# Altium schematic symbol library Connect.SchLib: 177 symbols
Pins are listed as number, name and electrical type; pins without a type are passive.

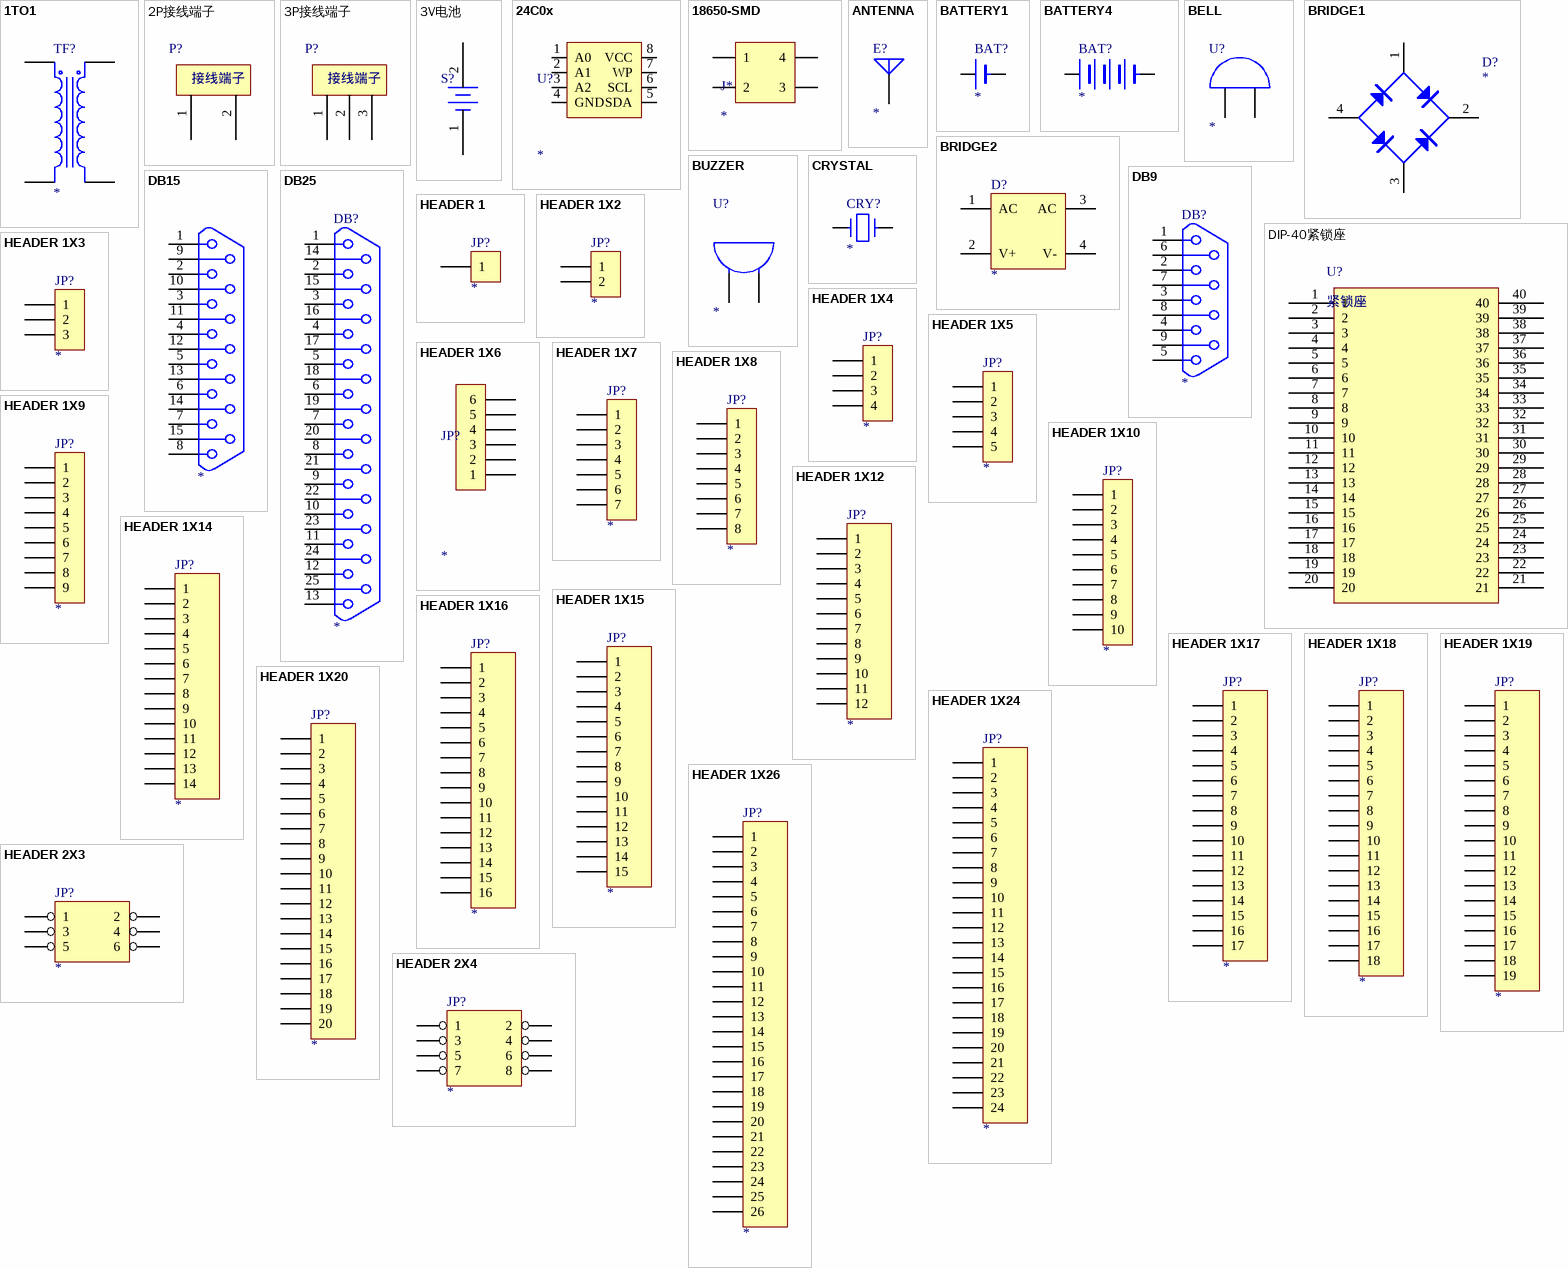
[diagram p0: symbols 1TO1 to HEADER 2X4]

## 1TO1
designator TF?
Transformer
simulation model 1TO1 (SUBCKT)
pins: 1 Pri+, 2 Pri-, 3 Sec+, 4 Sec-

## 2P接线端子
designator P?  (value not drawn)
footprint 2P接线端子
footprint 2P接线端子小
pins: 1, 2
text: 接线端子

## 3P接线端子
designator P?  (value not drawn)
footprint 3P接线端子小
pins: 1, 2, 3
text: 接线端子

## 3V电池
designator S?  (value not drawn)
footprint 电池2032
footprint 电池1220
footprint 3V电池
pins: 1, 2

## 24C0x
designator U?
footprint SOP-8
pins: 1 A0, 2 A1, 3 A2, 4 GND, 5 SDA, 6 SCL, 7 WP, 8 VCC

## 18650-SMD
designator J*
footprint 18650-SMD
pins: 1, 2, 3, 4

## ANTENNA
designator E?
Generic Antenna
pins: 1 A

## BATTERY1
designator BAT?
footprint CR1220电池座
pins: 1, 2

## BATTERY4
designator BAT?
pins: 1, 2

## BELL
designator U?
Bell
footprint BELL-non
pins: 1 A, 2 B

## BRIDGE1
designator D?
Diode Bridge
footprint BRIDGE
pins: 1 AC, 2 V+, 3 AC, 4 V-

## BRIDGE2
designator D?
Diode Bridge
footprint BRIDGE
pins: 1 AC, 2 V+, 3 AC, 4 V-

## BUZZER
designator U?
Buzzer
pins: 1 A, 2 B

## CRYSTAL
designator CRY?
footprint XTAL-RAD-0.2
footprint XTAL-A
footprint XTAL-B (206晶振)
pins: 1, 2

## DB9
designator DB?
footprint DB9 公 90°
footprint DB9/M
pins: 1, 2, 3, 4, 5, 6, 7, 8, 9

## DB15
designator ?
footprint Model Name (Footprint not found)
pins: 1, 2, 3, 4, 5, 6, 7, 8, 9, 10, 11, 12, 13, 14, 15

## DB25
designator DB?
footprint DB25
pins: 1, 2, 3, 4, 5, 6, 7, 8, 9, 10, 11, 12, 13, 14, 15, 16, 17, 18, 19, 20, 21, 22, 23, 24, 25

## DIP-40紧锁座
designator U?, comment 紧锁座
footprint DIP40紧锁座
pins: 1, 2, 3, 4, 5, 6, 7, 8, 9, 10, 11, 12, 13, 14, 15, 16, 17, 18, 19, 20, 21, 22, 23, 24, 25, 26, 27, 28, 29, 30, 31, 32, 33, 34, 35, 36, 37, 38, 39, 40

## HEADER 1
designator JP?
footprint HDR 1X1
pins: 1

## HEADER 1X2
designator JP?
footprint HDR 1X2
footprint HDR 1X2-X
pins: 1, 2

## HEADER 1X3
designator JP?
footprint HDR 1X3
footprint HDR 1X3-X
pins: 1, 2, 3

## HEADER 1X4
designator JP?
footprint HDR 1X4
footprint HDR 1X4-F
pins: 1, 2, 3, 4

## HEADER 1X5
designator JP?
footprint HDR 1X5
pins: 1, 2, 3, 4, 5

## HEADER 1X6
designator JP?
footprint HDR 1X6
footprint B6B-XH-A
footprint HDR 1X6-F
pins: 1, 2, 3, 4, 5, 6

## HEADER 1X7
designator JP?
footprint Model Name (Footprint not found)
pins: 1, 2, 3, 4, 5, 6, 7

## HEADER 1X8
designator JP?
footprint HDR 1X8 (Connector; Header; 8 Position)
footprint HDR 1X8-F
pins: 1, 2, 3, 4, 5, 6, 7, 8

## HEADER 1X9
designator JP?
footprint SIP9
pins: 1, 2, 3, 4, 5, 6, 7, 8, 9

## HEADER 1X10
designator JP?
footprint HDR 1X10
pins: 1, 2, 3, 4, 5, 6, 7, 8, 9, 10

## HEADER 1X12
designator JP?
footprint Model Name (Model Description)
pins: 1, 2, 3, 4, 5, 6, 7, 8, 9, 10, 11, 12

## HEADER 1X14
designator JP?
pins: 1, 2, 3, 4, 5, 6, 7, 8, 9, 10, 11, 12, 13, 14

## HEADER 1X15
designator JP?
pins: 1, 2, 3, 4, 5, 6, 7, 8, 9, 10, 11, 12, 13, 14, 15

## HEADER 1X16
designator JP?
pins: 1, 2, 3, 4, 5, 6, 7, 8, 9, 10, 11, 12, 13, 14, 15, 16

## HEADER 1X17
designator JP?
pins: 1, 2, 3, 4, 5, 6, 7, 8, 9, 10, 11, 12, 13, 14, 15, 16, 17

## HEADER 1X18
designator JP?
pins: 1, 2, 3, 4, 5, 6, 7, 8, 9, 10, 11, 12, 13, 14, 15, 16, 17, 18

## HEADER 1X19
designator JP?
pins: 1, 2, 3, 4, 5, 6, 7, 8, 9, 10, 11, 12, 13, 14, 15, 16, 17, 18, 19

## HEADER 1X20
designator JP?
footprint HDR 1X20-F
pins: 1, 2, 3, 4, 5, 6, 7, 8, 9, 10, 11, 12, 13, 14, 15, 16, 17, 18, 19, 20

## HEADER 1X24
designator JP?
pins: 1, 2, 3, 4, 5, 6, 7, 8, 9, 10, 11, 12, 13, 14, 15, 16, 17, 18, 19, 20, 21, 22, 23, 24

## HEADER 1X26
designator JP?
pins: 1, 2, 3, 4, 5, 6, 7, 8, 9, 10, 11, 12, 13, 14, 15, 16, 17, 18, 19, 20, 21, 22, 23, 24, 25, 26

## HEADER 2X3
designator JP?
footprint HDR 2X3 (Connector; Header; 3x2 Position)
footprint HDR 2X3H (Connector; Header; 3x2 Position; Right Angle)
pins: 1, 2, 3, 4, 5, 6

## HEADER 2X4
designator JP?
footprint HDR 2X4
footprint HDR 2X4H (Connector; Header; 4x2 Position; Right Angle)
pins: 1, 2, 3, 4, 5, 6, 7, 8

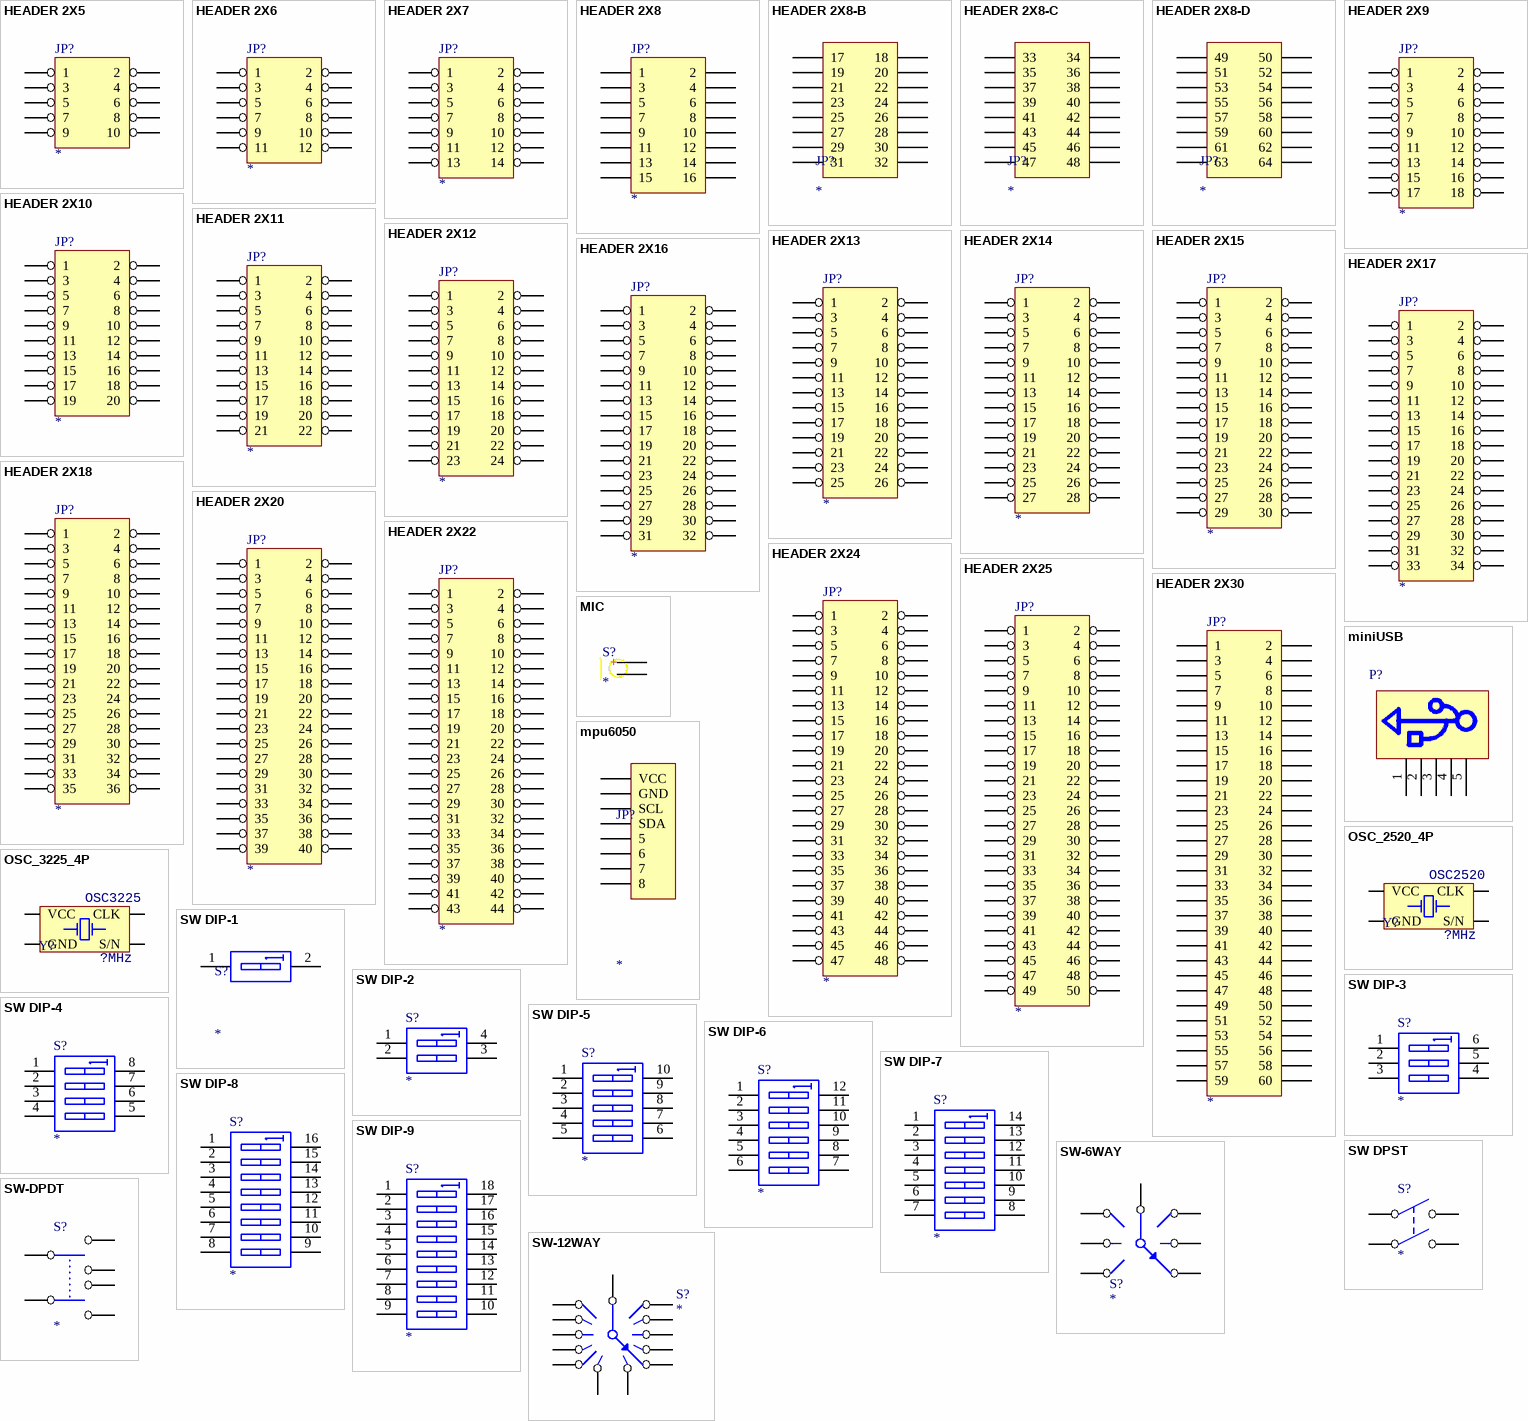
[diagram p1: symbols HEADER 2X5 to SW-DPDT]

## HEADER 2X5
designator JP?
footprint HDR 2X5 (Connector; Header; 5x2 Position)
footprint HDR 2X5H (Connector; Header; 5x2 Position; Right Angle)
pins: 1, 2, 3, 4, 5, 6, 7, 8, 9, 10

## HEADER 2X6
designator JP?
footprint HDR 2X6 (Connector; Header; 6x2 Position)
footprint HDR 2X6H (Connector; Header; 6x2 Position; Right Angle)
pins: 1, 2, 3, 4, 5, 6, 7, 8, 9, 10, 11, 12

## HEADER 2X7
designator JP?
footprint HDR 2X7 (Connector; Header; 7x2 Position)
footprint HDR 2X7H (Connector; Header; 7x2 Position; Right Angle)
pins: 1, 2, 3, 4, 5, 6, 7, 8, 9, 10, 11, 12, 13, 14

## HEADER 2X8
designator JP?
footprint HDR 2X8 (Connector; Header; 8x2 Position)
footprint HDR 2X8H (Connector; Header; 8x2 Position; Right Angle)
footprint HDR 2X8F
pins: 1, 2, 3, 4, 5, 6, 7, 8, 9, 10, 11, 12, 13, 14, 15, 16

## HEADER 2X8-B
designator JP?
footprint HDR 2X8-B-F
footprint HDR 2X8-B
pins: 17, 18, 19, 20, 21, 22, 23, 24, 25, 26, 27, 28, 29, 30, 31, 32

## HEADER 2X8-C
designator JP?
footprint HDR 2X8-C-F
footprint HDR 2X8-C
pins: 33, 34, 35, 36, 37, 38, 39, 40, 41, 42, 43, 44, 45, 46, 47, 48

## HEADER 2X8-D
designator JP?
footprint HDR 2X8-D-F
pins: 49, 50, 51, 52, 53, 54, 55, 56, 57, 58, 59, 60, 61, 62, 63, 64

## HEADER 2X9
designator JP?
footprint IDC18
footprint IDC-18
pins: 1, 2, 3, 4, 5, 6, 7, 8, 9, 10, 11, 12, 13, 14, 15, 16, 17, 18

## HEADER 2X10
designator JP?
footprint HDR 2X10 (Connector; Header; 10x2 Position)
footprint HDR 2X10H (Connector; Header; 10x2 Position; Right Angle)
pins: 1, 2, 3, 4, 5, 6, 7, 8, 9, 10, 11, 12, 13, 14, 15, 16, 17, 18, 19, 20

## HEADER 2X11
designator JP?
footprint HDR 2X11 (Connector; Header; 11x2 Position)
footprint HDR 2X11H (Connector; Header; 11x2 Position; Right Angle)
pins: 1, 2, 3, 4, 5, 6, 7, 8, 9, 10, 11, 12, 13, 14, 15, 16, 17, 18, 19, 20, 21, 22

## HEADER 2X12
designator JP?
footprint HDR 2X12 (Connector; Header; 12x2 Position)
footprint HDR 2X12H (Connector; Header; 12x2 Position; Right Angle)
pins: 1, 2, 3, 4, 5, 6, 7, 8, 9, 10, 11, 12, 13, 14, 15, 16, 17, 18, 19, 20, 21, 22, 23, 24

## HEADER 2X13
designator JP?
footprint HDR 2X13 (Connector; Header; 13x2 Position)
footprint HDR 2X13H (Connector; Header; 13x2 Position; Right Angle)
pins: 1, 2, 3, 4, 5, 6, 7, 8, 9, 10, 11, 12, 13, 14, 15, 16, 17, 18, 19, 20, 21, 22, 23, 24, 25, 26

## HEADER 2X14
designator JP?
footprint HDR 2X14 (Connector; Header; 14x2 Position)
footprint HDR 2X14H (Connector; Header; 14x2 Position; Right Angle)
pins: 1, 2, 3, 4, 5, 6, 7, 8, 9, 10, 11, 12, 13, 14, 15, 16, 17, 18, 19, 20, 21, 22, 23, 24, 25, 26, 27, 28

## HEADER 2X15
designator JP?
footprint HDR 2X15 (Connector; Header; 15x2 Position)
footprint HDR 2X15H (Connector; Header; 15x2 Position; Right Angle)
pins: 1, 2, 3, 4, 5, 6, 7, 8, 9, 10, 11, 12, 13, 14, 15, 16, 17, 18, 19, 20, 21, 22, 23, 24, 25, 26, 27, 28, 29, 30

## HEADER 2X16
designator JP?
footprint HDR 2X16 (Connector; Header; 16x2 Position)
footprint HDR 2X16H (Connector; Header; 16x2 Position; Right Angle)
pins: 1, 2, 3, 4, 5, 6, 7, 8, 9, 10, 11, 12, 13, 14, 15, 16, 17, 18, 19, 20, 21, 22, 23, 24, 25, 26, 27, 28, 29, 30, 31, 32

## HEADER 2X17
designator JP?
footprint HDR 2X17 (Connector; Header; 17x2 Position)
footprint HDR 2X17H (Connector; Header; 17x2 Position; Right Angle)
pins: 1, 2, 3, 4, 5, 6, 7, 8, 9, 10, 11, 12, 13, 14, 15, 16, 17, 18, 19, 20, 21, 22, 23, 24, 25, 26, 27, 28, 29, 30, 31, 32, 33, 34

## HEADER 2X18
designator JP?
footprint HDR 2X18 (Connector; Header; 18x2 Position)
footprint HDR 2X18H (Connector; Header; 18x2 Position; Right Angle)
pins: 1, 2, 3, 4, 5, 6, 7, 8, 9, 10, 11, 12, 13, 14, 15, 16, 17, 18, 19, 20, 21, 22, 23, 24, 25, 26, 27, 28, 29, 30, 31, 32, 33, 34, 35, 36

## HEADER 2X20
designator JP?
footprint HDR 2X20
footprint HDR 2X20H (Connector; Header; 20x2 Position; Right Angle)
pins: 1, 2, 3, 4, 5, 6, 7, 8, 9, 10, 11, 12, 13, 14, 15, 16, 17, 18, 19, 20, 21, 22, 23, 24, 25, 26, 27, 28, 29, 30, 31, 32, 33, 34, 35, 36, 37, 38, 39, 40

## HEADER 2X22
designator JP?
footprint HDR 2X22 (Connector; Header; 22x2 Position)
footprint HDR 2X22H (Connector; Header; 22x2 Position; Right Angle)
pins: 1, 2, 3, 4, 5, 6, 7, 8, 9, 10, 11, 12, 13, 14, 15, 16, 17, 18, 19, 20, 21, 22, 23, 24, 25, 26, 27, 28, 29, 30, 31, 32, 33, 34, 35, 36, 37, 38, 39, 40, 41, 42, 43, 44

## HEADER 2X24
designator JP?
footprint HDR 2X24 (Connector; Header; 24x2 Position)
footprint HDR 2X24H (Connector; Header; 24x2 Position; Right Angle)
pins: 1, 2, 3, 4, 5, 6, 7, 8, 9, 10, 11, 12, 13, 14, 15, 16, 17, 18, 19, 20, 21, 22, 23, 24, 25, 26, 27, 28, 29, 30, 31, 32, 33, 34, 35, 36, 37, 38, 39, 40, 41, 42, 43, 44, 45, 46, 47, 48

## HEADER 2X25
designator JP?
footprint HDR 2X25 (Connector; Header; 25x2 Position)
footprint HDR 2X25H (Connector; Header; 25x2 Position; Right Angle)
pins: 1, 2, 3, 4, 5, 6, 7, 8, 9, 10, 11, 12, 13, 14, 15, 16, 17, 18, 19, 20, 21, 22, 23, 24, 25, 26, 27, 28, 29, 30, 31, 32, 33, 34, 35, 36, 37, 38, 39, 40, 41, 42, 43, 44, 45, 46, 47, 48, 49, 50

## HEADER 2X30
designator JP?
footprint HDR 2X30 (Connector; Header; 30x2 Position)
pins: 1, 2, 3, 4, 5, 6, 7, 8, 9, 10, 11, 12, 13, 14, 15, 16, 17, 18, 19, 20, 21, 22, 23, 24, 25, 26, 27, 28, 29, 30, 31, 32, 33, 34, 35, 36, 37, 38, 39, 40, 41, 42, 43, 44, 45, 46, 47, 48, 49, 50, 51, 52, 53, 54, 55, 56, 57, 58, 59, 60

## MIC
designator S?
footprint MIC
pins: 1, 2
text: +

## miniUSB
designator P?  (value not drawn)
footprint USB-MINI
footprint USB-MINI-2
pins: 1, 2, 3, 4, 5

## mpu6050
designator JP?
footprint HDR 1X8 (Connector; Header; 8 Position)
footprint HDR 1X8-F
pins: 1 VCC, 2 GND, 3 SCL, 4 SDA, 5, 6, 7, 8

## OSC_2520_4P
designator Y?, comment value ?MHz  (hidden comment: OSC2520)
Crystal Oscillator; Type: OSC2520
footprint XT_2520_4
pins: 1 S/N, 2 GND, 3 CLK, 4 VCC

## OSC_3225_4P
designator Y?, comment value ?MHz  (hidden comment: OSC3225)
Crystal Oscillator; Type: OSC3225
footprint XT_3225_4
footprint OSC_2520
pins: 1 S/N, 2 GND, 3 CLK, 4 VCC

## SW DIP-1
designator S?
DIP Switch
footprint SW-DIP-2 (DIP Switch; 2 Leads)
pins: 1 A1, 2 B1

## SW DIP-2
designator S?
DIP Switch
pins: 1 A1, 2 A2, 3 B2, 4 B1

## SW DIP-3
designator S?
DIP Switch
pins: 1 A1, 2 A2, 3 A3, 4 B3, 5 B2, 6 B1

## SW DIP-4
designator S?
DIP Switch
pins: 1 A1, 2 A2, 3 A3, 4 A4, 5 B4, 6 B3, 7 B2, 8 B1

## SW DIP-5
designator S?
DIP Switch
pins: 1 A1, 2 A2, 3 A3, 4 A4, 5 A5, 6 B5, 7 B4, 8 B3, 9 B2, 10 B1

## SW DIP-6
designator S?
DIP Switch
pins: 1 A1, 2 A2, 3 A3, 4 A4, 5 A5, 6 A6, 7 B6, 8 B5, 9 B4, 10 B3, 11 B2, 12 B1

## SW DIP-7
designator S?
DIP Switch
pins: 1 A1, 2 A2, 3 A3, 4 A4, 5 A5, 6 A6, 7 A7, 8 B7, 9 B6, 10 B5, 11 B4, 12 B3, 13 B2, 14 B1

## SW DIP-8
designator S?
Switch
footprint SW-SMD-8 (DIP Switch; 16 Leads)
pins: 1 A1, 2 A2, 3 A3, 4 A4, 5 A5, 6 A6, 7 A7, 8 A8, 9 B8, 10 B7, 11 B6, 12 B5, 13 B4, 14 B3, 15 B2, 16 B1

## SW DIP-9
designator S?
Switch
pins: 1 A1, 2 A2, 3 A3, 4 A4, 5 A5, 6 A6, 7 A7, 8 A8, 9 A9, 10 B9, 11 B8, 12 B7, 13 B6, 14 B5, 15 B4, 16 B3, 17 B2, 18 B1

## SW DPST
designator S?
pins: 1 COMMON1, 2 NO1, 3 COMMON2, 4 NO2

## SW-6WAY
designator S?
pins: 1, 2, 3, 4, 5, 6, 7

## SW-12WAY
designator S?
pins: 1, 2, 3, 4, 5, 6, 7, 8, 9, 10, 11, 12, 13

## SW-DPDT
designator S?
footprint SW-6
pins: 1, 2, 3, 4, 5, 6

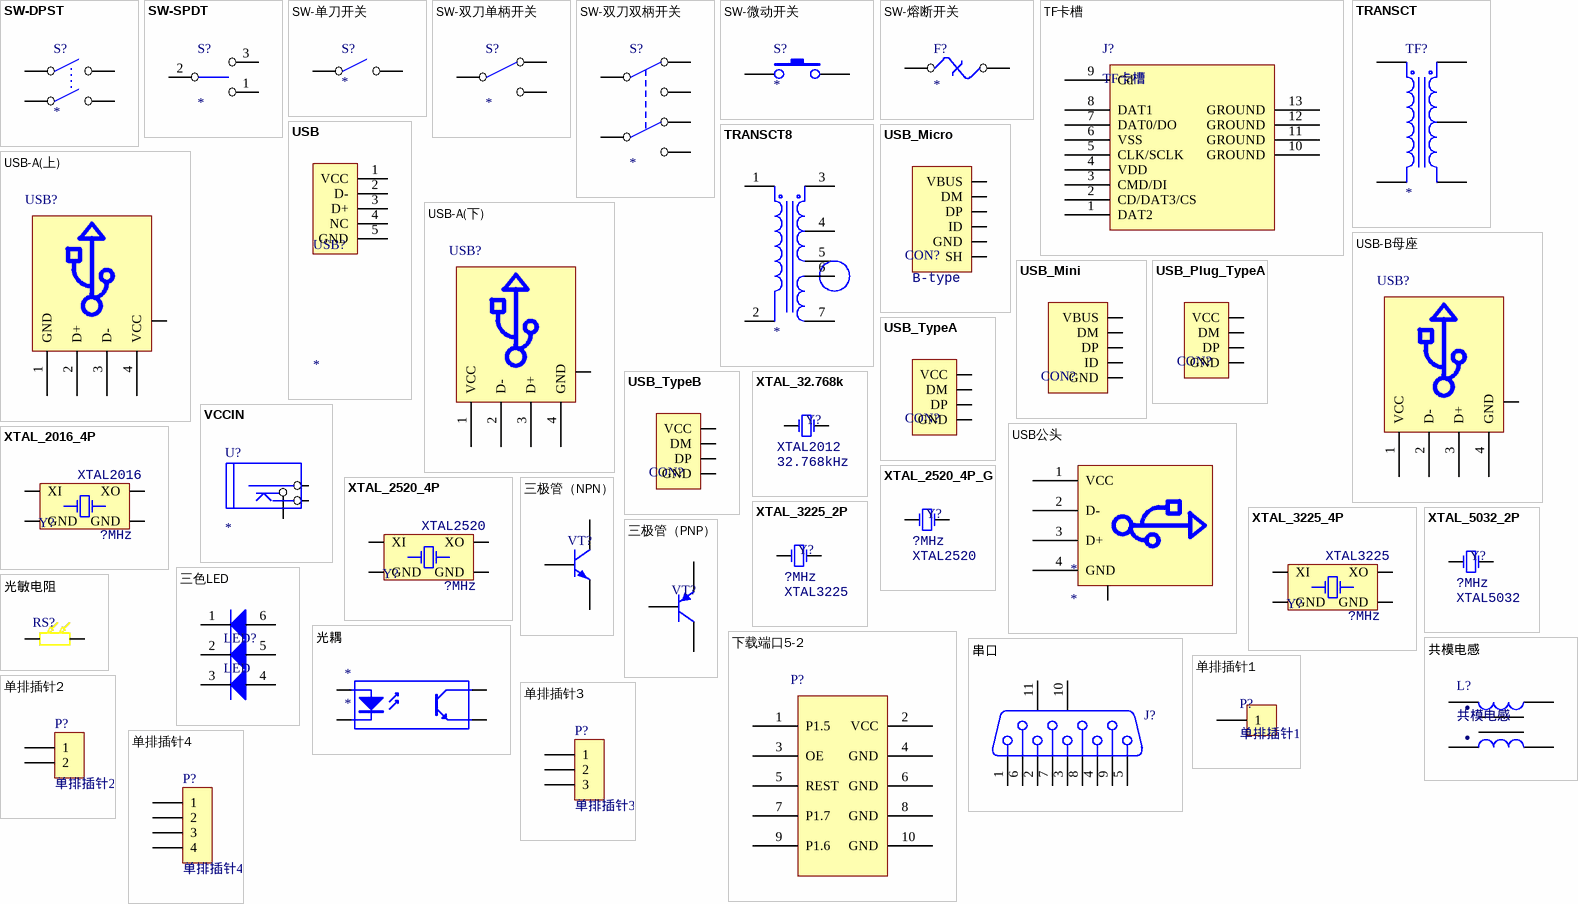
[diagram p2: symbols SW-DPST to 单排插针4]

## SW-DPST
designator S?
pins: 1, 2, 3, 4

## SW-SPDT
designator S?
pins: 1, 2, 3

## SW-单刀开关
designator S?
pins: 1, 2

## SW-双刀单柄开关
designator S?
pins: 1 COMMON, 2 NC, 3 NO

## SW-双刀双柄开关
designator S?
footprint SW-6
pins: 1 COMMON1, 2 NC1, 3 NO1, 4 NC2, 5 COMMON2, 6 NO2

## SW-微动开关
designator S?
footprint KEY (TACTILE-PTH)
footprint KEY-SMT
footprint KEYSMD1
pins: 1, 2

## SW-熔断开关
designator F?
pins: 1, 2

## TF卡槽
designator J?
pins: 1 DAT2, 2 CD/DAT3/CS, 3 CMD/DI, 4 VDD, 5 CLK/SCLK, 6 VSS, 7 DAT0/DO, 8 DAT1, 9 Cd, 10 GROUND, 11 GROUND, 12 GROUND, 13 GROUND

## TRANSCT
designator TF?
Center-Tapped Transformer
simulation model TRANSCT (SUBCKT)
pins: 1 Pri+, 2 Pri-, 3 Sec+, 4 SecCT, 5 Sec-

## TRANSCT8
designator ?
pins: 1 Pri+, 2 Pri-, 3 Sec+, 4 SecCT, 5 Sec-, 6 sec+, 7 sec-

## USB
designator USB?
D
footprint USB-MINI-1 (Footprint not found)
footprint USB-MINI-2
pins: 1 VCC, 2 D-, 3 D+, 4 NC, 5 GND

## USB-A(上)
designator USB?  (value not drawn)
footprint USB
footprint USB_C1 (侧卧USB)
pins: 0, 1 GND, 2 D+, 3 D-, 4 VCC

## USB-A(下)
designator USB?  (value not drawn)
footprint USB
footprint USB_C1 (侧卧USB)
pins: 0, 1 VCC, 2 D-, 3 D+, 4 GND

## USB-B母座
designator USB?  (value not drawn)
footprint USB-B母座
pins: 0, 1 VCC, 2 D-, 3 D+, 4 GND

## USB_Micro
designator CON?, comment Type: B-type  (hidden comment: MicroUSB)
USB
footprint USB_Micro-AB
footprint USB_Micro-B
footprint USB_Micro-A
pins: 0 SH, 1 VBUS, 2 DM, 3 DP, 4 ID, 5 GND

## USB_Mini
designator CON?, comment MiniUSB  (value not drawn)
USB
footprint USB_Mini-B
pins: 1 VBUS, 2 DM, 3 DP, 4 ID, 5 GND

## USB_Plug_TypeA
designator CON?  (value not drawn)
USB
footprint USB_Plug_TypeA_PCB
footprint USB_Plug_TypeA
pins: 1 VCC, 2 DM, 3 DP, 4 GND

## USB_TypeA
designator CON?  (value not drawn)
USB
footprint USB_TypeA
pins: 1 VCC, 2 DM, 3 DP, 4 GND

## USB_TypeB
designator CON?  (value not drawn)
USB
footprint USB_TypeB
pins: 1 VCC, 2 DM, 3 DP, 4 GND

## USB公头
designator *
footprint USB公头
pins: 0, 1 VCC, 2 D-, 3 D+, 4 GND

## VCCIN
designator U?
footprint VCCIN
pins: 1, 2, 3

## XTAL_32.768k
designator Y?, comment value 32.768kHz  (hidden comment: XTAL2012)
Crystal Oscillator; Type: XTAL2012
footprint XT_8038_4
footprint XT_3215_2
footprint XT_2012_2
pins: 1 OSC1, 2 OSC2

## XTAL_2016_4P
designator Y?, comment value ?MHz  (hidden comment: XTAL2016)
Crystal Oscillator; Type: XTAL2016
footprint XT_2016_4
pins: 1 XI, 2 GND, 3 XO, 4 GND

## XTAL_2520_4P
designator Y?, comment value ?MHz  (hidden comment: XTAL2520)
Crystal Oscillator; Type: XTAL2520
footprint XT_2520_4
pins: 1 XI, 2 GND, 3 XO, 4 GND

## XTAL_2520_4P_G
designator Y?, comment value ?MHz  (hidden comment: XTAL2520)
Crystal Oscillator; Type: XTAL2520
footprint XT_2520_4
pins: 1 OSC1, 3 OSC2

## XTAL_3225_2P
designator Y?, comment value ?MHz  (hidden comment: XTAL3225)
Crystal Oscillator; Type: XTAL3225
footprint XT_3225_2
pins: 1 OSC1, 2 OSC2

## XTAL_3225_4P
designator Y?, comment value ?MHz  (hidden comment: XTAL3225)
Crystal Oscillator; Type: XTAL3225
footprint XT_3225_4
pins: 1 XI, 2 GND, 3 XO, 4 GND

## XTAL_5032_2P
designator Y?, comment value ?MHz  (hidden comment: XTAL5032)
Crystal Oscillator; Type: XTAL5032
footprint XT_5032_2
pins: 1 OSC1, 2 OSC2

## 三极管（NPN）
designator VT?  (value not drawn)
footprint TO-92_Str
footprint TO-92_Bent
pins: 1 E, 2 B, 3 C

## 三极管（PNP）
designator VT?  (value not drawn)
footprint TO-92_Str
footprint TO-92_Bent
pins: 1 E, 2 B, 3 C

## 三色LED
designator LED?, comment LED
footprint 三色LED
pins: 1, 2, 3, 4, 5, 6

## 下载端口5-2
designator P?, comment ISP  (value not drawn)
footprint 下载端子5-2
pins: 1 P1.5, 2 VCC, 3 OE, 4 GND, 5 REST, 6 GND, 7 P1.7, 8 GND, 9 P1.6, 10 GND

## 串口
designator J?  (value not drawn)
PackageDocument: O; Positions: 9; Gender: Receptacle; Published: 15-Jun-2001; LatestRevisionDate: 17-Jul-2002; LatestRevisionNote: Re-released for DXP Platform.; DatasheetDocument: 1-Sep-1999; PackageReference: 788750; Publisher: Altium Limited; Orientation: Right Angle
footprint 串口公头
footprint 串口母座 (Connector; D Subminiature; 9 Position; Right Angle; Pitch 1.385 mm)
pins: 1, 2, 3, 4, 5, 6, 7, 8, 9, 10 MH1, 11 MH2

## 光敏电阻
designator RS?  (value not drawn)
footprint 光敏电阻
pins: 1, 2

## 光耦
designator *
footprint DIP-4-300
footprint DIP 4 SMD
pins: 1 A "Anode", 2 K "Cathode", 3 E "Emitter", 4 C "Collector"

## 共模电感
designator L?
footprint 共模电感
footprint 共模电感ACM7060
footprint 共模滤波器 ZJYS51R5
pins: 1, 2, 3, 4
text: .

## 单排插针1
designator P?
footprint 单排弯插针1
footprint 单排插针1
pins: 1

## 单排插针2
designator P?
footprint 单排插针2 (Connector; Header; 2 Position)
footprint 单排弯插针2
pins: 1, 2

## 单排插针3
designator P?
footprint 单排插针3 (Connector; Header; 3 Position)
footprint 单排弯插针3
pins: 1, 2, 3

## 单排插针4
designator P?
footprint 单排插针4 (Connector; Header; 4 Position)
footprint 单排弯插针4
pins: 1, 2, 3, 4

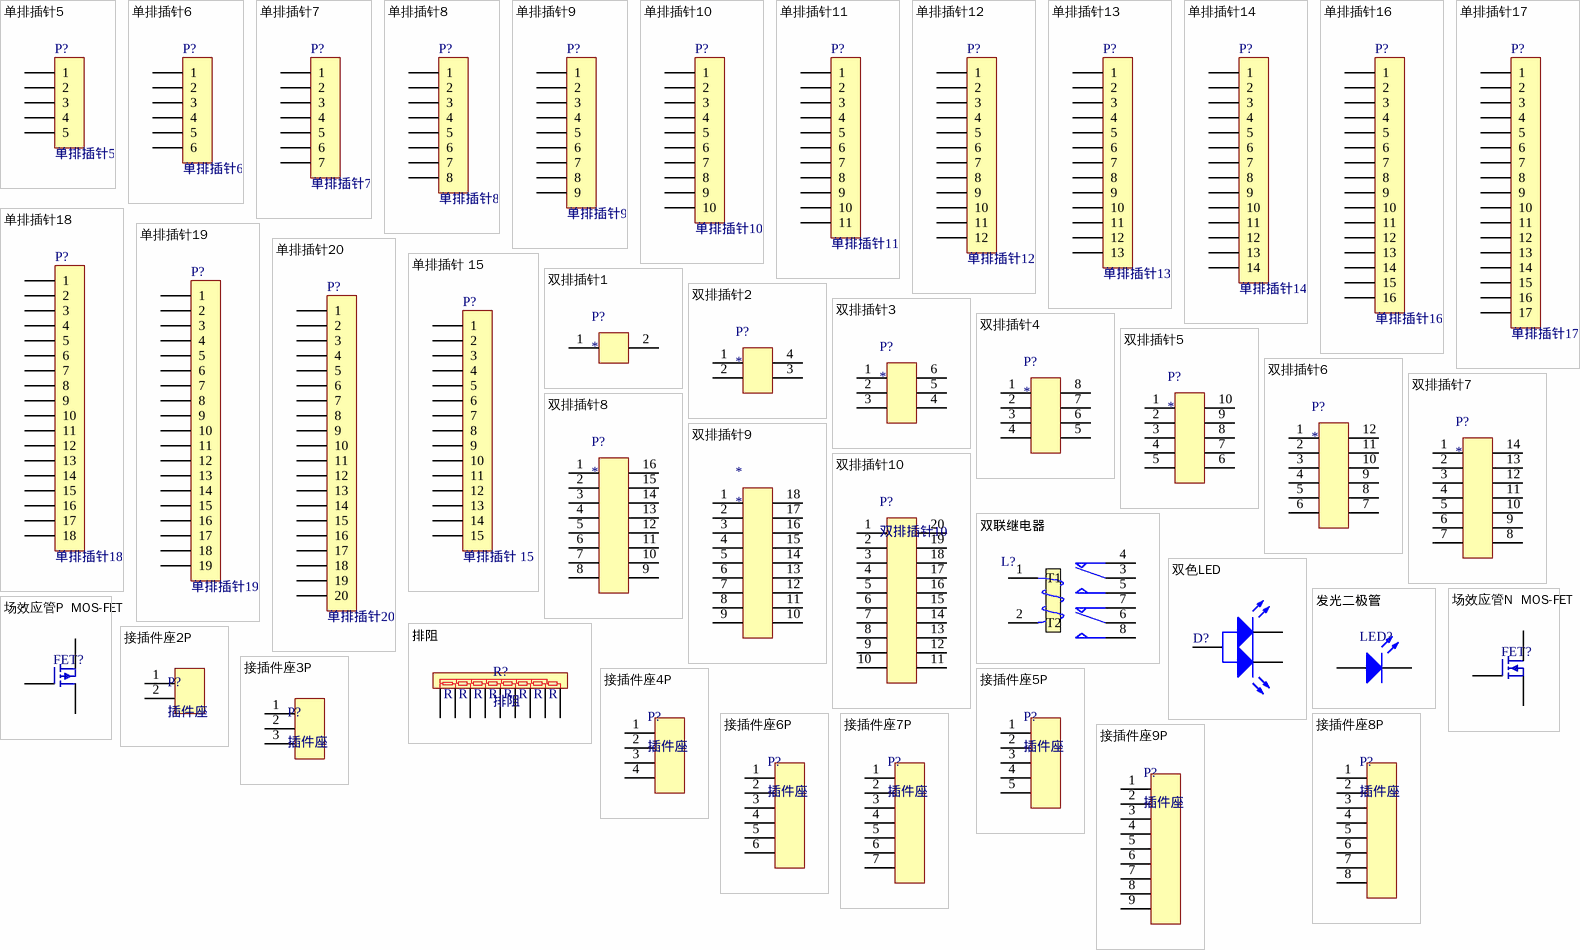
[diagram p3: symbols 单排插针5 to 接插件座9P]

## 单排插针5
designator P?
footprint 单排插针5 (Connector; Header; 5 Position)
footprint 单排弯插针5
pins: 1, 2, 3, 4, 5

## 单排插针6
designator P?
footprint 单排插针6 (Connector; Header; 6 Position)
footprint 单排弯插针6
pins: 1, 2, 3, 4, 5, 6

## 单排插针7
designator P?
footprint 单排插针7 (Connector; Header; 7 Position)
footprint 单排弯插针7
pins: 1, 2, 3, 4, 5, 6, 7

## 单排插针8
designator P?
footprint 单排插针8 (Connector; Header; 8 Position)
footprint 单排弯插针8
pins: 1, 2, 3, 4, 5, 6, 7, 8

## 单排插针9
designator P?
footprint 单排插针9 (Connector; Header; 9 Position)
pins: 1, 2, 3, 4, 5, 6, 7, 8, 9

## 单排插针10
designator P?
footprint 单排插针10 (Connector; Header; 10 Position)
pins: 1, 2, 3, 4, 5, 6, 7, 8, 9, 10

## 单排插针11
designator P?
footprint 单排插针11 (Connector; Header; 11 Position)
pins: 1, 2, 3, 4, 5, 6, 7, 8, 9, 10, 11

## 单排插针12
designator P?
footprint 单排插针12 (Connector; Header; 12 Position)
pins: 1, 2, 3, 4, 5, 6, 7, 8, 9, 10, 11, 12

## 单排插针13
designator P?
footprint 单排插针13 (Connector; Header; 13 Position)
pins: 1, 2, 3, 4, 5, 6, 7, 8, 9, 10, 11, 12, 13

## 单排插针14
designator P?
footprint 单排插针14 (Connector; Header; 14 Position)
pins: 1, 2, 3, 4, 5, 6, 7, 8, 9, 10, 11, 12, 13, 14

## 单排插针16
designator P?
footprint 单排插针16 (Connector; Header; 16 Position)
pins: 1, 2, 3, 4, 5, 6, 7, 8, 9, 10, 11, 12, 13, 14, 15, 16

## 单排插针17
designator P?
footprint 单排插针17 (Connector; Header; 17 Position)
pins: 1, 2, 3, 4, 5, 6, 7, 8, 9, 10, 11, 12, 13, 14, 15, 16, 17

## 单排插针18
designator P?
footprint 单排插针18 (Connector; Header; 18 Position)
pins: 1, 2, 3, 4, 5, 6, 7, 8, 9, 10, 11, 12, 13, 14, 15, 16, 17, 18

## 单排插针19
designator P?
footprint 单排插针19 (Connector; Header; 19 Position)
pins: 1, 2, 3, 4, 5, 6, 7, 8, 9, 10, 11, 12, 13, 14, 15, 16, 17, 18, 19

## 单排插针20
designator P?
footprint 单排插针20 (Connector; Header; 20 Position)
pins: 1, 2, 3, 4, 5, 6, 7, 8, 9, 10, 11, 12, 13, 14, 15, 16, 17, 18, 19, 20

## 单排插针 15
designator P?
footprint 单排插针15 (Connector; Header; 15 Position)
pins: 1, 2, 3, 4, 5, 6, 7, 8, 9, 10, 11, 12, 13, 14, 15

## 双排插针1
designator P?
footprint 双排插针1
pins: 1 0, 2 1

## 双排插针2
designator P?
footprint 双排插针2
pins: 1, 2, 3, 4

## 双排插针3
designator P?
footprint 双排插针3
pins: 1 0, 2 1, 3 2, 4 3, 5 4, 6 5

## 双排插针4
designator P?
footprint 双排插针4
pins: 1, 2, 3, 4, 5, 6, 7, 8

## 双排插针5
designator P?
footprint 双排插针5
pins: 1, 2, 3, 4, 5, 6, 7, 8, 9, 10

## 双排插针6
designator P?
footprint 双排插针6
pins: 1, 2, 3, 4, 5, 6, 7, 8, 9, 10, 11, 12

## 双排插针7
designator P?
footprint 双排插针7
pins: 1, 2, 3, 4, 5, 6, 7, 8, 9, 10, 11, 12, 13, 14

## 双排插针8
designator P?
footprint 双排插针8
pins: 1, 2, 3, 4, 5, 6, 7, 8, 9, 10, 11, 12, 13, 14, 15, 16

## 双排插针9
designator *
footprint 双排插针9
pins: 1, 2, 3, 4, 5, 6, 7, 8, 9, 10, 11, 12, 13, 14, 15, 16, 17, 18

## 双排插针10
designator P?
footprint 双排插针10
pins: 1, 2, 3, 4, 5, 6, 7, 8, 9, 10, 11, 12, 13, 14, 15, 16, 17, 18, 19, 20

## 双联继电器
designator L?  (value not drawn)
footprint 双联小继电器
pins: 1 T1, 2 T2, 3 COM, 4 NC, 5 NO, 6 COM, 7 NC, 8 NO

## 双色LED
designator D?  (value not drawn)
Published: 8-Jun-2000; LatestRevisionDate: 08-Jul-2005; LatestRevisionNote: Mech Layer 1 removed.; PackageReference: LED-0; Publisher: Altium Limited
footprint LED_A3 (直径3MM二极管)
pins: 1 K1, 2 A, 3 K2

## 发光二极管
designator LED?  (value not drawn)
footprint 发光二极管(5mm)红
footprint 发光二极管(5mm)绿
footprint 发光二极管(5mm)蓝
footprint 发光二极管(5mm)黄
footprint 0805LED白
footprint 0805LED红
footprint 0805LED蓝
pins: 1 A, 2 K

## 场效应管N  MOS-FET
designator FET?  (value not drawn)
footprint SOT-23
footprint TO-252
footprint TO-263-2
pins: 1 G, 2 D, 3 S

## 场效应管P  MOS-FET
designator FET?  (value not drawn)
footprint SOT-23
footprint TO-252
footprint TO-263-2
pins: 1 G, 2 D, 3 S

## 排阻
designator R?
footprint 排阻
pins: 1, 2, 3, 4, 5, 6, 7, 8, 9
text: R

## 接插件座2P
designator P?, comment 插件座
footprint B2B-XH-A
footprint HDR2
pins: 1, 2

## 接插件座3P
designator P?, comment 插件座
footprint B3B-XH-A
footprint HDR3 (5.08mm端子)
pins: 1, 2, 3

## 接插件座4P
designator P?, comment 插件座
footprint B4B-XH-A
footprint HDR4
pins: 1, 2, 3, 4

## 接插件座5P
designator P?, comment 插件座
footprint B5B-XH-A
footprint HDR5
pins: 1, 2, 3, 4, 5

## 接插件座6P
designator P?, comment 插件座
footprint B6B-XH-A
footprint HDR6
pins: 1, 2, 3, 4, 5, 6

## 接插件座7P
designator P?, comment 插件座
footprint B7B-XH-A
footprint HDR7
pins: 1, 2, 3, 4, 5, 6, 7

## 接插件座8P
designator P?, comment 插件座
footprint B8B-XH-A
footprint HDR8
pins: 1, 2, 3, 4, 5, 6, 7, 8

## 接插件座9P
designator P?, comment 插件座
footprint HDR9
pins: 1, 2, 3, 4, 5, 6, 7, 8, 9

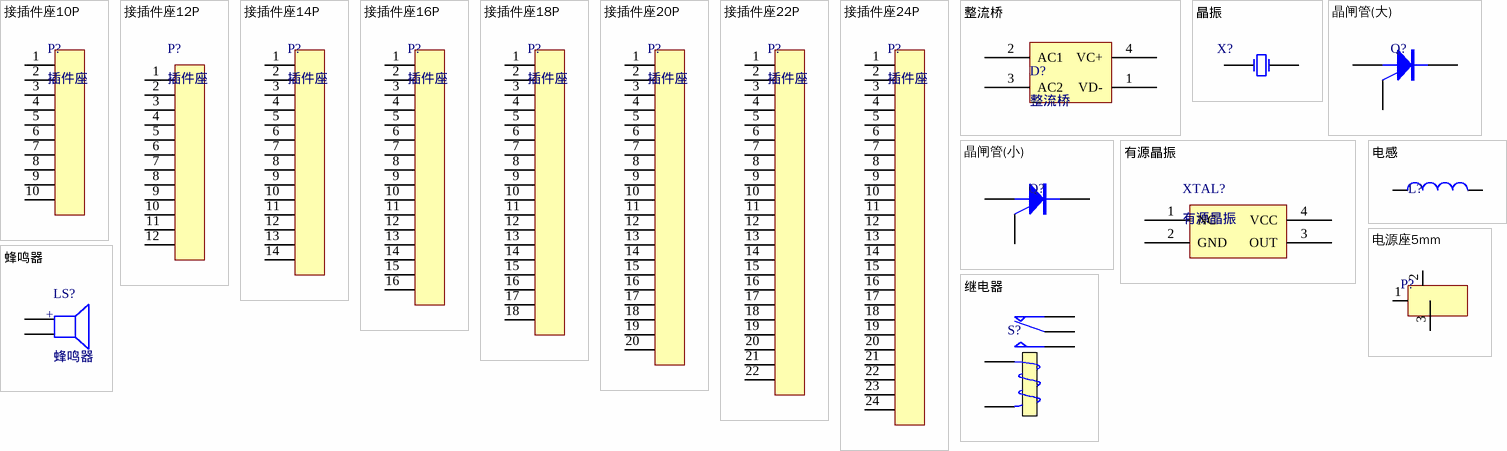
[diagram p4: symbols 接插件座10P to 蜂鸣器]

## 接插件座10P
designator P?, comment 插件座
footprint HDR10
pins: 1, 2, 3, 4, 5, 6, 7, 8, 9, 10

## 接插件座12P
designator P?, comment 插件座
footprint HDR12
pins: 1, 2, 3, 4, 5, 6, 7, 8, 9, 10, 11, 12

## 接插件座14P
designator P?, comment 插件座
footprint HDR14
pins: 1, 2, 3, 4, 5, 6, 7, 8, 9, 10, 11, 12, 13, 14

## 接插件座16P
designator P?, comment 插件座
footprint HDR16
pins: 1, 2, 3, 4, 5, 6, 7, 8, 9, 10, 11, 12, 13, 14, 15, 16

## 接插件座18P
designator P?, comment 插件座
footprint HDR18
pins: 1, 2, 3, 4, 5, 6, 7, 8, 9, 10, 11, 12, 13, 14, 15, 16, 17, 18

## 接插件座20P
designator P?, comment 插件座
footprint HDR20
pins: 1, 2, 3, 4, 5, 6, 7, 8, 9, 10, 11, 12, 13, 14, 15, 16, 17, 18, 19, 20

## 接插件座22P
designator P?, comment 插件座
footprint HDR22
pins: 1, 2, 3, 4, 5, 6, 7, 8, 9, 10, 11, 12, 13, 14, 15, 16, 17, 18, 19, 20, 21, 22

## 接插件座24P
designator P?, comment 插件座
footprint HDR24
pins: 1, 2, 3, 4, 5, 6, 7, 8, 9, 10, 11, 12, 13, 14, 15, 16, 17, 18, 19, 20, 21, 22, 23, 24

## 整流桥
designator D?
footprint 整流桥 大
footprint 整流桥小
footprint 整流桥方形大
footprint 整流桥方形小
footprint 整流桥电磁炉
footprint 整流桥小圆
pins: 1 VD-, 2 AC1, 3 AC2, 4 VC+

## 晶振
designator X?  (value not drawn)
footprint 晶振
footprint 贴片晶振
footprint 小晶振
pins: 1 OSC1, 2 OSC2

## 晶闸管(大)
designator Q?  (value not drawn)
footprint TO200-3
pins: 1 A, 2 G, 3 K

## 晶闸管(小)
designator Q?  (value not drawn)
Published: 8-Jun-2000; LatestRevisionDate: 17-Jul-2002; LatestRevisionNote: Re-released for DXP Platform.; PackageReference: TO-52; Publisher: Altium Limited
footprint TO-92_Bent
footprint TO-92_Str
pins: 1 A, 2 G, 3 K

## 有源晶振
designator XTAL?
footprint 有源晶振
pins: 1 NC, 2 GND, 3 OUT, 4 VCC

## 电感
designator L?  (value not drawn)
footprint 贴片功率电感12-12
footprint 小贴片电感
pins: 1, 2

## 电源座5mm
designator P?  (value not drawn)
footprint 电源座5mm
pins: 1, 2, 3

## 继电器
designator S?  (value not drawn)
footprint 继电器
footprint 继电器
pins: 1 T1, 2 T2, 3 COM, 4 NC, 5 NO

## 蜂鸣器
designator LS?
Published: 24-Mar-1999; LatestRevisionDate: 17-Jul-2002; LatestRevisionNote: Re-released for DXP Platform.; PackageReference: PIN2; Publisher: Altium Limited
footprint 无源蜂鸣器
pins: 1, 2
text: +